# EAGLE library part PIC12F1572 (library Microchip)
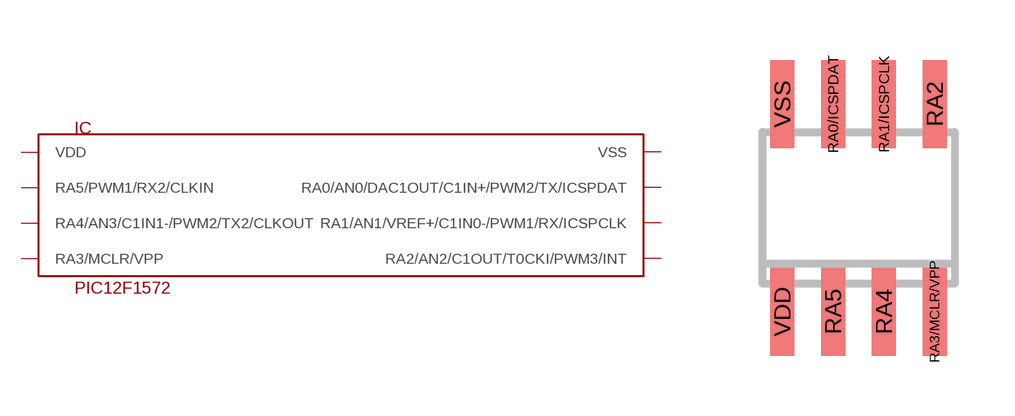
[diagram p146: symbol with the pads of SO-08; footprint SO-08]

Designator prefix IC

## PIC12F1572  [SO-08]
RA0/ICSPDAT  RA0/AN0/DAC1OUT/C1IN+/PWM2/TX/ICSPDAT
RA1/ICSPCLK  RA1/AN1/VREF+/C1IN0-/PWM1/RX/ICSPCLK
RA2  RA2/AN2/C1OUT/T0CKI/PWM3/INT
RA3/MCLR/VPP  RA3/MCLR/VPP
RA4  RA4/AN3/C1IN1-/PWM2/TX2/CLKOUT
RA5  RA5/PWM1/RX2/CLKIN
VDD  VDD
VSS  VSS

## Footprint SO-08 (pad centres in mm)
Small Outline Narrow Plastic Gull Wing 150-mil body, package type SN
smd 0.6 x 2.2: RA0/ICSPDAT -0.635,2.6; RA1/ICSPCLK 0.635,2.6; RA2 1.905,2.6; RA3/MCLR/VPP 1.905,-2.6; RA4 0.635,-2.6; RA5 -0.635,-2.6; VDD -1.905,-2.6; VSS -1.905,2.6